# EAGLE library part FH12-10S-0.5SH(55) (library Sala-Eng-Hirose)
Hirose FH12-10S-0.5SH(55) 0.5mm Bottom mount FFC 10 Pin
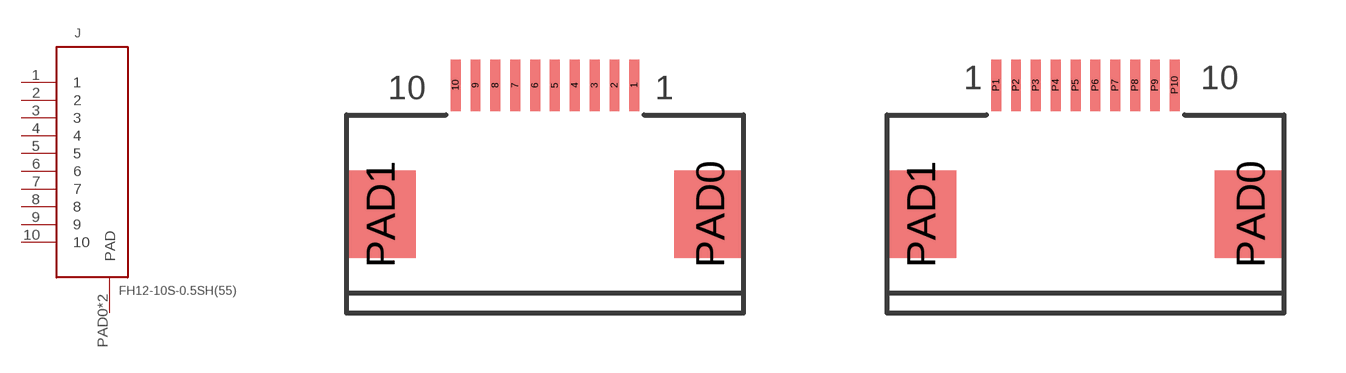
[diagram p9: symbol with the pads of FH12-10S-05.SH(55)-REMOTE; footprints FH12-10S-05.SH(55)-REMOTE, FH12-10S-05.SH(55)-BASE]

Designator prefix J

## FH12-10S-0.5SH(55)REMOTE (MAN-PART-NUM: FH12-10S-0.5SH(55); MANUFACTURER: Hirose)  [FH12-10S-05.SH(55)-REMOTE]
1  1
2  2
3  3
4  4
5  5
6  6
7  7
8  8
9  9
10  10
PAD0  PAD
PAD1  PAD

## FH12-10S-0.5SH(55)BASE (MAN-PART-NUM: FH12-10S-0.5SH(55); MANUFACTURER: Hirose)  [FH12-10S-05.SH(55)-BASE]
P1  1
P2  2
P3  3
P4  4
P5  5
P6  6
P7  7
P8  8
P9  9
P10  10
PAD0  PAD
PAD1  PAD

## Footprint FH12-10S-05.SH(55)-REMOTE (pad centres in mm)
Hirose FH12-10S-0.5SH(55) 0.5mm Bottom mount FFC 10 Pin REMOTE Configuration
smd 0.25 x 1.3: 1 2.25,0; 2 1.75,0; 3 1.25,0; 4 0.75,0; 5 0.25,0; 6 -0.25,0; 7 -0.75,0; 8 -1.25,0; 9 -1.75,0; 10 -2.25,0
smd 1.8 x 2.2: PAD0 4.15,-3.25; PAD1 -4.15,-3.25

## Footprint FH12-10S-05.SH(55)-BASE (pad centres in mm)
Hirose FH12-10S-0.5SH(55) 0.5mm Bottom mount FFC 10 Pin BASE Configuration
smd 0.25 x 1.3: P1 -2.25,0; P2 -1.75,0; P3 -1.25,0; P4 -0.75,0; P5 -0.25,0; P6 0.25,0; P7 0.75,0; P8 1.25,0; P9 1.75,0; P10 2.25,0
smd 1.8 x 2.2: PAD0 4.15,-3.25; PAD1 -4.15,-3.25